# Altium integrated library TI Interface Line Receiver.IntLib: 131 symbols (part 3 of 3)
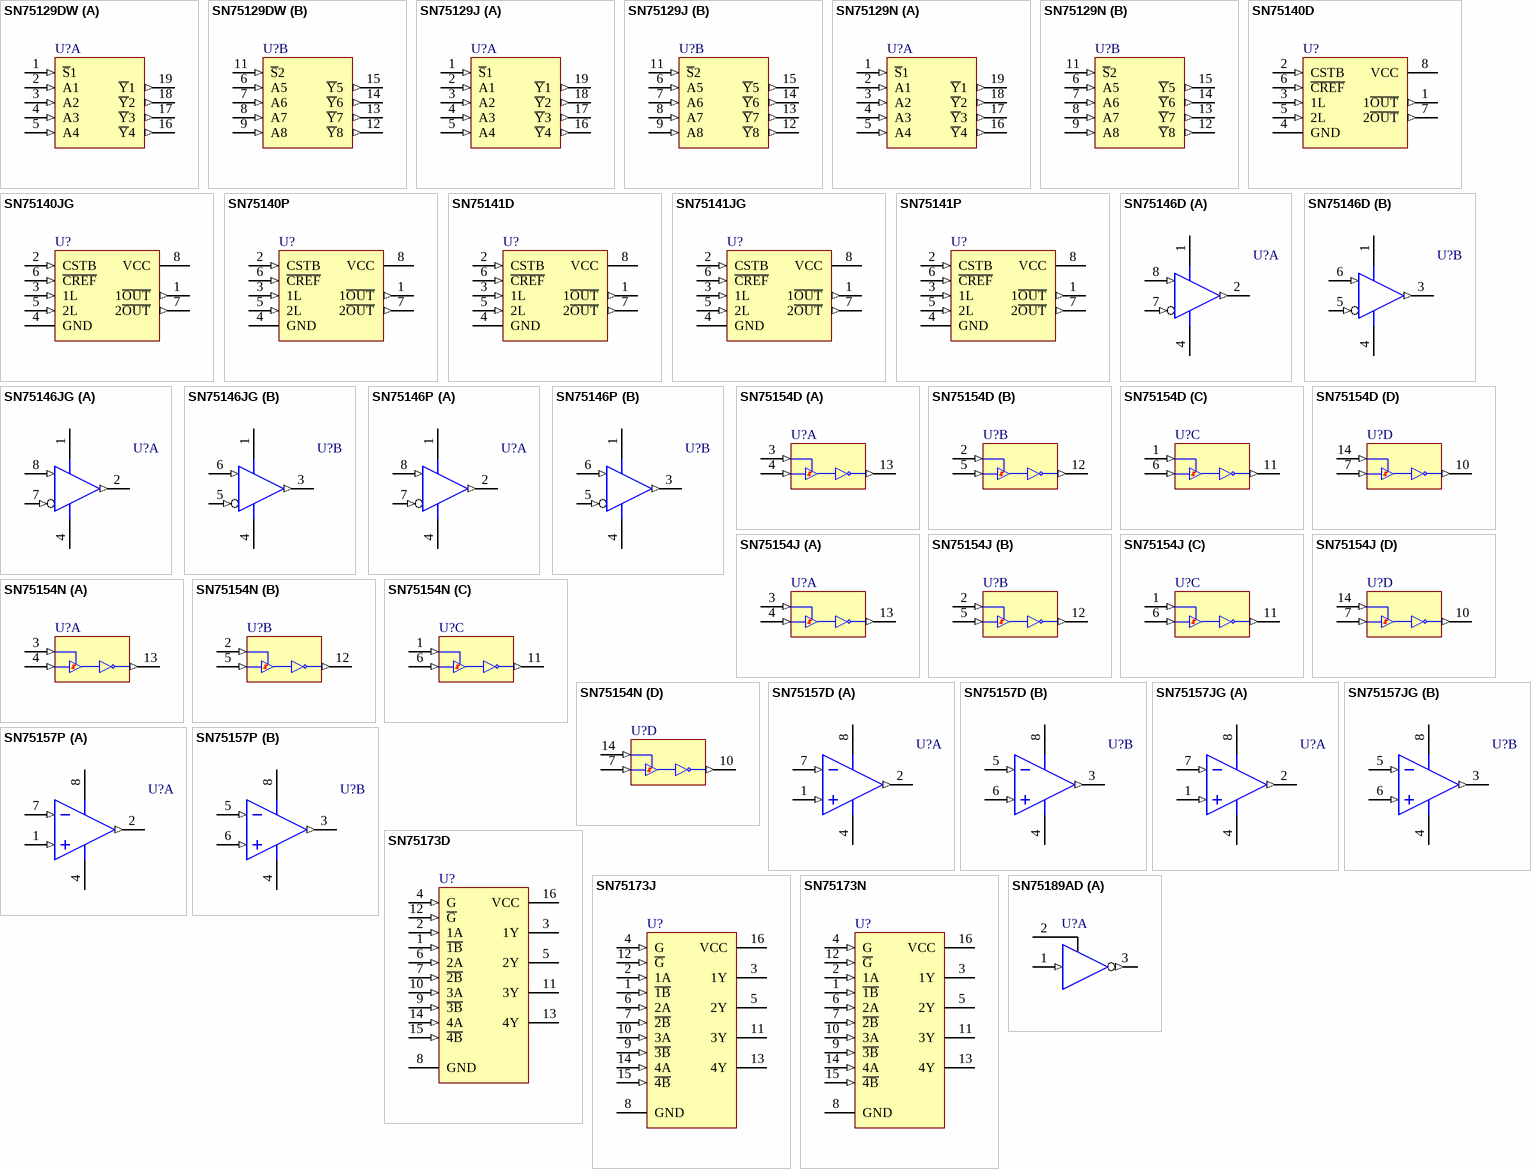
[diagram p8: symbols SN75129DW to SN75189AD]

## SN75146P
designator U?
Dual Differential Line Receiver; ComponentAvailability: Obsolete; Published: 15-May-2002; LatestRevisionDate: 29-May-2009; LatestRevisionNote: Component Body Added.; DatasheetVersion: Feb-1986; PackageVersion: Jun-1999; PackageReference: P008; Publisher: Altium Limited; PackageDescription: DIP, 8-Pin, Row Spacing 7.62 mm, Pitch 2.54 mm; Code_JEDEC: MO-001-AN; ComponentLink1Description: Manufacturer Link; ComponentLink1URL: http://www.ti.com/; ComponentLink2Description: Datasheet; ComponentLink2URL: http://www-s.ti.com/sc/ds/sn75146.pdf
footprint P008 (DIP, 8-Leads, Row Spacing 7.62mm, Pitch 2.54mm, Body 9.81x6.35mm)
3D model P008 (DIP, 8-Pin, Row Spacing 7.62 mm, Pitch 2.54 mm)
pins on every part: 1 VCC (power), 4 GND (power)
part A pins: 2 1OUT (out), 7 1IN- (in), 8 1IN+ (in)
part B pins: 3 2OUT (out), 5 2IN- (in), 6 2IN+ (in)

## SN75154D
designator U?
Quadruple Line Receiver; Published: 15-May-2002; LatestRevisionDate: 13-Apr-2006; LatestRevisionNote: IPC-7351 Footprint Added.; DatasheetVersion: May-1990; PackageVersion: Jan-1998; PackageReference: D016; Publisher: Altium Limited; PackageDescription: 16-Pin Small Outline Integrated Circuit 1.27 mm Pitch; Code_IPC: SOIC127P600-16; ComponentLink1Description: Manufacturer Link; ComponentLink1URL: http://www.ti.com/; ComponentLink2Description: Datasheet; ComponentLink2URL: http://www-s.ti.com/sc/ds/sn75154.pdf
footprint D016_N (SOIC, 16-Leads, Body 9.9x3.9mm, Pitch 1.27mm, IPC Medium Density)
footprint D016_L (SOIC, 16-Leads, Body 9.9x3.9mm, Pitch 1.27mm, IPC High Density)
footprint D016_M (SOIC, 16-Leads, Body 9.9x3.9mm, Pitch 1.27mm, IPC Low Density)
3D model D016 (16-Pin Small Outline Integrated Circuit 1.27 mm Pitch)
pins on every part: 8 GND (power) hidden to GND, 15 VCC1 (power) hidden to VCC1, 16 VCC2 (power) hidden to VCC2
part A pins: 3 1T (in), 4 1A (in), 13 1~{Y} (out)
part B pins: 2 2T (in), 5 2A (in), 12 2~{Y} (out)
part C pins: 1 3T (in), 6 3A (in), 11 3~{Y} (out)
part D pins: 7 4A (in), 10 4~{Y} (out), 14 4T (in)

## SN75154J
designator U?
Quadruple Line Receiver; Published: 15-May-2002; LatestRevisionDate: 29-May-2009; LatestRevisionNote: Component Body Added.; DatasheetVersion: May-1990; PackageVersion: Jun-1999; PackageReference: J016; Publisher: Altium Limited; PackageDescription: DIP, Ceramic, 16-Pin, Row Spacing 7.62 mm, Pitch 2.54 mm; ComponentLink1Description: Manufacturer Link; ComponentLink1URL: http://www.ti.com/
footprint J016 (DIP, 16-Leads, Row Spacing 7.62mm, Pitch 2.54mm, Body 19.56x6.92mm)
3D model J016 (DIP, Ceramic, 16-Pin, Row Spacing 7.62 mm, Pitch 2.54 mm)
pins on every part: 8 GND (power) hidden to GND, 15 VCC1 (power) hidden to VCC1, 16 VCC2 (power) hidden to VCC2
part A pins: 3 1T (in), 4 1A (in), 13 1~{Y} (out)
part B pins: 2 2T (in), 5 2A (in), 12 2~{Y} (out)
part C pins: 1 3T (in), 6 3A (in), 11 3~{Y} (out)
part D pins: 7 4A (in), 10 4~{Y} (out), 14 4T (in)

## SN75154N
designator U?
Quadruple Line Receiver; Published: 15-May-2002; LatestRevisionDate: 29-May-2009; LatestRevisionNote: Component Body Added.; DatasheetVersion: May-1990; PackageVersion: Oct-1995; PackageReference: N016; Publisher: Altium Limited; PackageDescription: DIP, 16-Pin, Row Spacing 7.62 mm, Pitch 2.54 mm; Code_JEDEC: MS-001-BB; ComponentLink1Description: Manufacturer Link; ComponentLink1URL: http://www.ti.com/; ComponentLink2Description: Datasheet; ComponentLink2URL: http://www-s.ti.com/sc/ds/sn75154.pdf
footprint N016 (DIP, 16-Leads, Row Spacing 7.62mm, Pitch 2.54mm, Body 19.31x6.35mm)
3D model N016 (DIP, 16-Pin, Row Spacing 7.62 mm, Pitch 2.54 mm)
pins on every part: 8 GND (power) hidden to GND, 15 VCC1 (power) hidden to VCC1, 16 VCC2 (power) hidden to VCC2
part A pins: 3 1T (in), 4 1A (in), 13 1~{Y} (out)
part B pins: 2 2T (in), 5 2A (in), 12 2~{Y} (out)
part C pins: 1 3T (in), 6 3A (in), 11 3~{Y} (out)
part D pins: 7 4A (in), 10 4~{Y} (out), 14 4T (in)

## SN75157D
designator U?
Dual Differential Line Receiver; Published: 15-May-2002; LatestRevisionDate: 13-Apr-2006; LatestRevisionNote: IPC-7351 Footprint Added.; DatasheetVersion: Sep-1986; PackageVersion: Nov-2006; PackageReference: D008; Publisher: Altium Limited; PackageDescription: 8-Pin Small Outline Integrated Circuit 1.27 mm Pitch; Code_JEDEC: MS-012-AA; Code_IPC: SOIC127P600-8; ComponentLink1Description: Manufacturer Link; ComponentLink1URL: http://www.ti.com/; ComponentLink2Description: Datasheet; ComponentLink2URL: http://www-s.ti.com/sc/ds/sn75157.pdf
footprint D008_N (SOIC, 8-Leads, Body 4.9x3.9mm, Pitch 1.27mm, IPC Medium Density)
footprint D008_L (SOIC, 8-Leads, Body 4.9x3.9mm, Pitch 1.27mm, IPC High Density)
footprint D008_M (SOIC, 8-Leads, Body 4.9x3.9mm, Pitch 1.27mm, IPC Low Density)
3D model D008 (8-Pin Small Outline Integrated Circuit 1.27 mm Pitch)
pins on every part: 4 GND (power), 8 VCC (power)
part A pins: 1 IN+ (in), 2 OUT (out), 7 IN- (in)
part B pins: 3 OUT (out), 5 IN- (in), 6 IN+ (in)

## SN75157JG
designator U?
Dual Differential Line Receiver; Published: 15-May-2002; LatestRevisionDate: 29-May-2009; LatestRevisionNote: Component Body Added.; DatasheetVersion: Sep-1986; PackageVersion: Jan-1995; PackageReference: JG008; Publisher: Altium Limited; PackageDescription: DIP, Ceramic, 8-Pin, Row Spacing 7.62 mm, Pitch 2.54 mm; ComponentLink1Description: Manufacturer Link; ComponentLink1URL: http://www.ti.com/
footprint JG008 (DIP, 8-Leads, Row Spacing 7.62mm, Pitch 2.54mm, Body 9.58x6.67mm)
3D model JG008 (DIP, Ceramic, 8-Pin, Row Spacing 7.62 mm, Pitch 2.54 mm)
pins on every part: 4 GND (power), 8 VCC (power)
part A pins: 1 IN+ (in), 2 OUT (out), 7 IN- (in)
part B pins: 3 OUT (out), 5 IN- (in), 6 IN+ (in)

## SN75157P
designator U?
Dual Differential Line Receiver; Published: 15-May-2002; LatestRevisionDate: 29-May-2009; LatestRevisionNote: Component Body Added.; DatasheetVersion: Sep-1986; PackageVersion: Jun-1999; PackageReference: P008; Publisher: Altium Limited; PackageDescription: DIP, 8-Pin, Row Spacing 7.62 mm, Pitch 2.54 mm; Code_JEDEC: MO-001-AN; ComponentLink1Description: Manufacturer Link; ComponentLink1URL: http://www.ti.com/; ComponentLink2Description: Datasheet; ComponentLink2URL: http://www-s.ti.com/sc/ds/sn75157.pdf
footprint P008 (DIP, 8-Leads, Row Spacing 7.62mm, Pitch 2.54mm, Body 9.81x6.35mm)
3D model P008 (DIP, 8-Pin, Row Spacing 7.62 mm, Pitch 2.54 mm)
pins on every part: 4 GND (power), 8 VCC (power)
part A pins: 1 IN+ (in), 2 OUT (out), 7 IN- (in)
part B pins: 3 OUT (out), 5 IN- (in), 6 IN+ (in)

## SN75173D
designator U?
Quadruple Differential Line Driver; Published: 15-May-2002; LatestRevisionDate: 13-Apr-2006; LatestRevisionNote: IPC-7351 Footprint Added.; DatasheetVersion: Jul-1990; PackageVersion: Jan-1998; PackageReference: D016; Publisher: Altium Limited; PackageDescription: 16-Pin Small Outline Integrated Circuit 1.27 mm Pitch; Code_IPC: SOIC127P600-16; ComponentLink1Description: Manufacturer Link; ComponentLink1URL: http://www.ti.com/; ComponentLink2Description: Datasheet; ComponentLink2URL: http://www-s.ti.com/sc/ds/sn75173.pdf
footprint D016_N (SOIC, 16-Leads, Body 9.9x3.9mm, Pitch 1.27mm, IPC Medium Density)
footprint D016_L (SOIC, 16-Leads, Body 9.9x3.9mm, Pitch 1.27mm, IPC High Density)
footprint D016_M (SOIC, 16-Leads, Body 9.9x3.9mm, Pitch 1.27mm, IPC Low Density)
3D model D016 (16-Pin Small Outline Integrated Circuit 1.27 mm Pitch)
pins: 1 ~{1B} (in), 2 1A (in), 3 1Y (hiz), 4 G (in), 5 2Y (hiz), 6 2A (in), 7 ~{2B} (in), 8 GND (power), 9 ~{3B} (in), 10 3A (in), 11 3Y (hiz), 12 ~{G} (in), 13 4Y (hiz), 14 4A (in), 15 ~{4B} (in), 16 VCC (power)

## SN75173J
designator U?
Quadruple Differential Line Driver; ComponentAvailability: Obsolete; Published: 15-May-2002; LatestRevisionDate: 29-May-2009; LatestRevisionNote: Component Body Added.; DatasheetVersion: Jul-1990; PackageVersion: Jun-1999; PackageReference: J016; Publisher: Altium Limited; PackageDescription: DIP, Ceramic, 16-Pin, Row Spacing 7.62 mm, Pitch 2.54 mm; ComponentLink1Description: Manufacturer Link; ComponentLink1URL: http://www.ti.com/; ComponentLink2Description: Datasheet; ComponentLink2URL: http://www-s.ti.com/sc/ds/sn75173.pdf
footprint J016 (DIP, 16-Leads, Row Spacing 7.62mm, Pitch 2.54mm, Body 19.56x6.92mm)
3D model J016 (DIP, Ceramic, 16-Pin, Row Spacing 7.62 mm, Pitch 2.54 mm)
pins: 1 ~{1B} (in), 2 1A (in), 3 1Y (hiz), 4 G (in), 5 2Y (hiz), 6 2A (in), 7 ~{2B} (in), 8 GND (power), 9 ~{3B} (in), 10 3A (in), 11 3Y (hiz), 12 ~{G} (in), 13 4Y (hiz), 14 4A (in), 15 ~{4B} (in), 16 VCC (power)

## SN75173N
designator U?
Quadruple Differential Line Driver; Published: 15-May-2002; LatestRevisionDate: 29-May-2009; LatestRevisionNote: Component Body Added.; DatasheetVersion: Jul-1990; PackageVersion: Oct-1995; PackageReference: N016; Publisher: Altium Limited; PackageDescription: DIP, 16-Pin, Row Spacing 7.62 mm, Pitch 2.54 mm; Code_JEDEC: MS-001-BB; ComponentLink1Description: Manufacturer Link; ComponentLink1URL: http://www.ti.com/; ComponentLink2Description: Datasheet; ComponentLink2URL: http://www-s.ti.com/sc/ds/sn75173.pdf
footprint N016 (DIP, 16-Leads, Row Spacing 7.62mm, Pitch 2.54mm, Body 19.31x6.35mm)
3D model N016 (DIP, 16-Pin, Row Spacing 7.62 mm, Pitch 2.54 mm)
pins: 1 ~{1B} (in), 2 1A (in), 3 1Y (hiz), 4 G (in), 5 2Y (hiz), 6 2A (in), 7 ~{2B} (in), 8 GND (power), 9 ~{3B} (in), 10 3A (in), 11 3Y (hiz), 12 ~{G} (in), 13 4Y (hiz), 14 4A (in), 15 ~{4B} (in), 16 VCC (power)

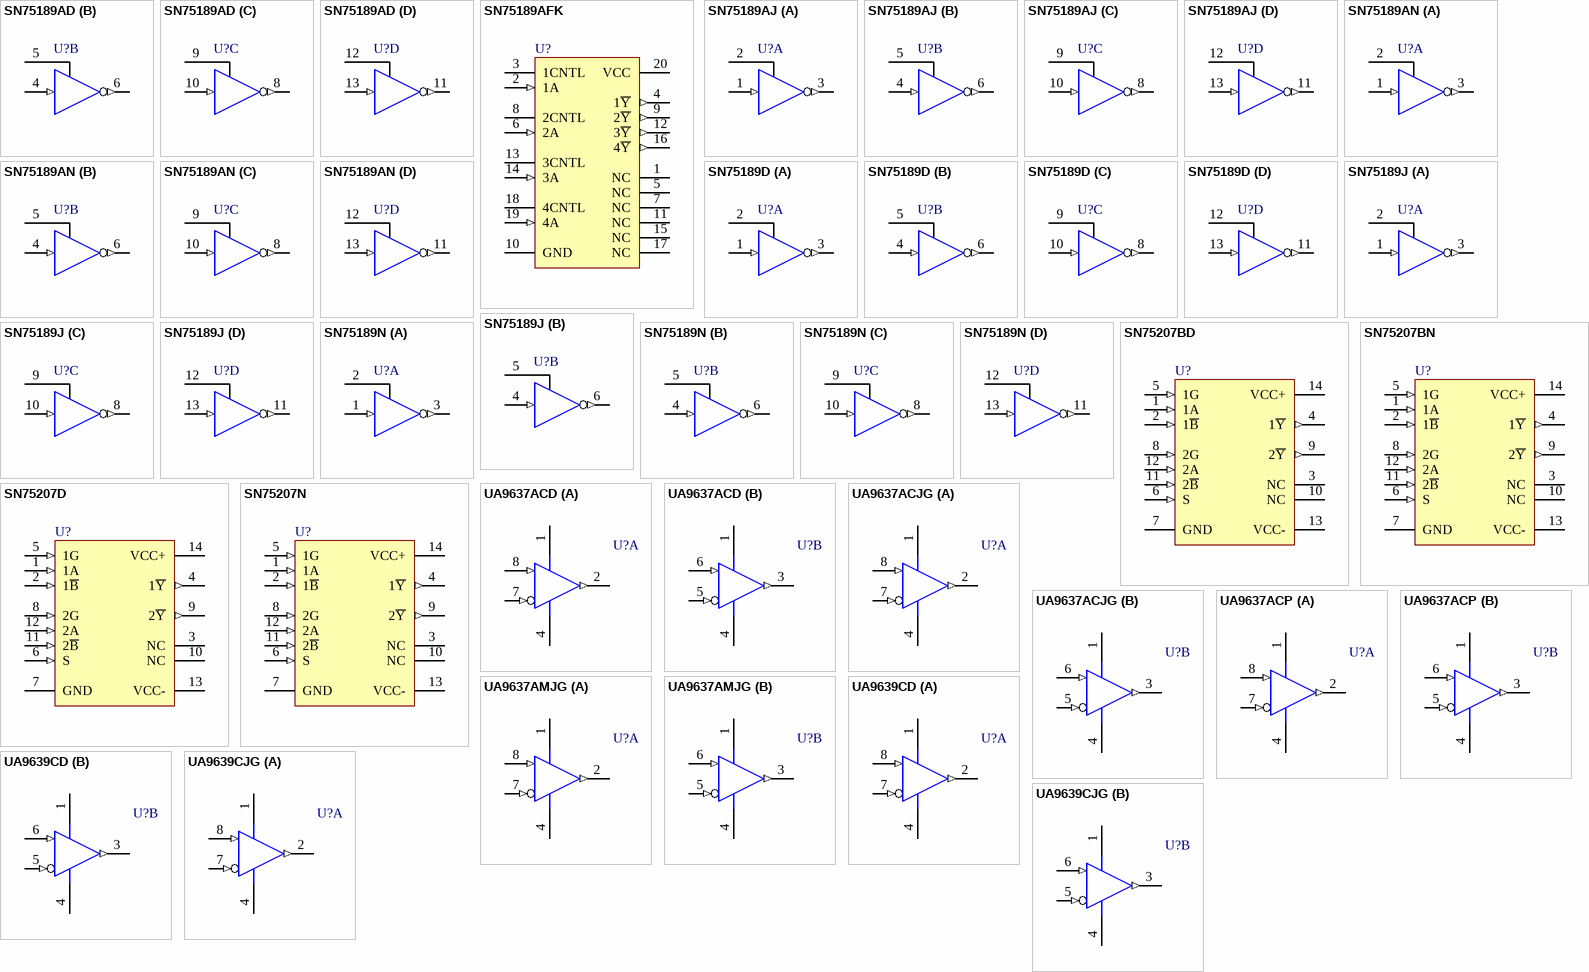
[diagram p5: symbols SN75189AD to UA9639CJG]

## SN75189AD
designator U?
Quadruple Line Receiver; Published: 15-May-2002; LatestRevisionDate: 13-Apr-2006; LatestRevisionNote: IPC-7351 Footprint Added.; DatasheetVersion: May-1990; PackageVersion: Nov-2006; PackageReference: D014; Publisher: Altium Limited; PackageDescription: 14-Pin Small Outline Integrated Circuit 1.27 mm Pitch; Code_JEDEC: MS-012-AB; Code_IPC: SOIC127P600-14; ComponentLink1Description: Manufacturer Link; ComponentLink1URL: http://www.ti.com/; ComponentLink2Description: Datasheet; ComponentLink2URL: http://www-s.ti.com/sc/ds/sn55189.pdf
footprint D014_N (SOIC, 14-Leads, Body 8.7x3.9mm, Pitch 1.27mm, IPC Medium Density)
footprint D014_L (SOIC, 14-Leads, Body 8.7x3.9mm, Pitch 1.27mm, IPC High Density)
footprint D014_M (SOIC, 14-Leads, Body 8.7x3.9mm, Pitch 1.27mm, IPC Low Density)
3D model D014 (14-Pin Small Outline Integrated Circuit 1.27 mm Pitch)
pins on every part: 7 GND (power) hidden to GND, 14 VCC+ (power) hidden to VCC+
part A pins: 1 A (in), 2 CNTL, 3 ~{Y} (out)
part B pins: 4 A (in), 5 CNTL, 6 ~{Y} (out)
part C pins: 8 ~{Y} (out), 9 CNTL, 10 A (in)
part D pins: 11 ~{Y} (out), 12 CNTL, 13 A (in)

## SN75189AFK
designator U?
Quadruple Line Receiver; Note: Inputs have build in Hysteresis (Double Thresholds); Published: 15-May-2002; LatestRevisionDate: 29-May-2009; LatestRevisionNote: IPC-7351 Footprint Added.; DatasheetVersion: May-1990; PackageVersion: 1998; PackageReference: FK020; Publisher: Altium Limited; PackageDescription: 20-Pin Leadless Chip Carrier 1.27 mm Pitch; Code_JEDEC: MS-004-CB; ComponentLink1Description: Manufacturer Link; ComponentLink1URL: http://www.ti.com/
footprint FK020_N (Leadless Chip Carrier, 20-Leads, Body 8.9x8.9mm, Pitch 1.27mm, IPC Medium Density)
footprint FK020_L (Leadless Chip Carrier, 20-Leads, Body 8.9x8.9mm, Pitch 1.27mm, IPC High Density)
footprint FK020_M (Leadless Chip Carrier, 20-Leads, Body 8.9x8.9mm, Pitch 1.27mm, IPC Low Density)
pins: 1 NC, 2 1A (in), 3 1CNTL, 4 1~{Y} (out), 5 NC, 6 2A (in), 7 NC, 8 2CNTL, 9 2~{Y} (out), 10 GND (power), 11 NC, 12 3~{Y} (out), 13 3CNTL, 14 3A (in), 15 NC, 16 4~{Y} (out), 17 NC, 18 4CNTL, 19 4A (in), 20 VCC (power)

## SN75189AJ
designator U?
Quadruple Line Receiver; Published: 15-May-2002; LatestRevisionDate: 29-May-2009; LatestRevisionNote: Component Body Added.; DatasheetVersion: May-1990; PackageVersion: Jun-1999; PackageReference: J014; Publisher: Altium Limited; PackageDescription: DIP, Ceramic, 14-Pin, Row Spacing 7.62 mm, Pitch 2.54 mm; ComponentLink1Description: Manufacturer Link; ComponentLink1URL: http://www.ti.com/
footprint J014 (DIP, 14-Leads, Row Spacing 7.62mm, Pitch 2.54mm, Body 19.56x6.92mm)
3D model J014 (DIP, Ceramic, 14-Pin, Row Spacing 7.62 mm, Pitch 2.54 mm)
pins on every part: 7 GND (power) hidden to GND, 14 VCC+ (power) hidden to VCC+
part A pins: 1 A (in), 2 CNTL, 3 ~{Y} (out)
part B pins: 4 A (in), 5 CNTL, 6 ~{Y} (out)
part C pins: 8 ~{Y} (out), 9 CNTL, 10 A (in)
part D pins: 11 ~{Y} (out), 12 CNTL, 13 A (in)

## SN75189AN
designator U?
Quadruple Line Receiver; Published: 15-May-2002; LatestRevisionDate: 29-May-2009; LatestRevisionNote: Component Body Added.; DatasheetVersion: May-1990; PackageVersion: Oct-1995; PackageReference: N014; Publisher: Altium Limited; PackageDescription: DIP, 14-Pin, Row Spacing 7.62 mm, Pitch 2.54 mm; ComponentLink1Description: Manufacturer Link; ComponentLink1URL: http://www.ti.com/; ComponentLink2Description: Datasheet; ComponentLink2URL: http://www-s.ti.com/sc/ds/sn55189.pdf
footprint N014 (DIP, 14-Leads, Row Spacing 7.62mm, Pitch 2.54mm, Body 19.31x6.35mm)
3D model N014 (DIP, 14-Pin, Row Spacing 7.62 mm, Pitch 2.54 mm)
pins on every part: 7 GND (power) hidden to GND, 14 VCC+ (power) hidden to VCC+
part A pins: 1 A (in), 2 CNTL, 3 ~{Y} (out)
part B pins: 4 A (in), 5 CNTL, 6 ~{Y} (out)
part C pins: 8 ~{Y} (out), 9 CNTL, 10 A (in)
part D pins: 11 ~{Y} (out), 12 CNTL, 13 A (in)

## SN75189D
designator U?
Quadruple Line Receiver; Published: 15-May-2002; LatestRevisionDate: 13-Apr-2006; LatestRevisionNote: IPC-7351 Footprint Added.; DatasheetVersion: May-1990; PackageVersion: Nov-2006; PackageReference: D014; Publisher: Altium Limited; PackageDescription: 14-Pin Small Outline Integrated Circuit 1.27 mm Pitch; Code_JEDEC: MS-012-AB; Code_IPC: SOIC127P600-14; ComponentLink1Description: Manufacturer Link; ComponentLink1URL: http://www.ti.com/; ComponentLink2Description: Datasheet; ComponentLink2URL: http://www-s.ti.com/sc/ds/sn55189.pdf
footprint D014_N (SOIC, 14-Leads, Body 8.7x3.9mm, Pitch 1.27mm, IPC Medium Density)
footprint D014_L (SOIC, 14-Leads, Body 8.7x3.9mm, Pitch 1.27mm, IPC High Density)
footprint D014_M (SOIC, 14-Leads, Body 8.7x3.9mm, Pitch 1.27mm, IPC Low Density)
3D model D014 (14-Pin Small Outline Integrated Circuit 1.27 mm Pitch)
pins on every part: 7 GND (power) hidden to GND, 14 VCC+ (power) hidden to VCC+
part A pins: 1 A (in), 2 CNTL, 3 ~{Y} (out)
part B pins: 4 A (in), 5 CNTL, 6 ~{Y} (out)
part C pins: 8 ~{Y} (out), 9 CNTL, 10 A (in)
part D pins: 11 ~{Y} (out), 12 CNTL, 13 A (in)

## SN75189J
designator U?
Quadruple Line Receiver; Published: 15-May-2002; LatestRevisionDate: 29-May-2009; LatestRevisionNote: Component Body Added.; DatasheetVersion: May-1990; PackageVersion: Jun-1999; PackageReference: J014; Publisher: Altium Limited; PackageDescription: DIP, Ceramic, 14-Pin, Row Spacing 7.62 mm, Pitch 2.54 mm; ComponentLink1Description: Manufacturer Link; ComponentLink1URL: http://www.ti.com/
footprint J014 (DIP, 14-Leads, Row Spacing 7.62mm, Pitch 2.54mm, Body 19.56x6.92mm)
3D model J014 (DIP, Ceramic, 14-Pin, Row Spacing 7.62 mm, Pitch 2.54 mm)
pins on every part: 7 GND (power) hidden to GND, 14 VCC+ (power) hidden to VCC+
part A pins: 1 A (in), 2 CNTL, 3 ~{Y} (out)
part B pins: 4 A (in), 5 CNTL, 6 ~{Y} (out)
part C pins: 8 ~{Y} (out), 9 CNTL, 10 A (in)
part D pins: 11 ~{Y} (out), 12 CNTL, 13 A (in)

## SN75189N
designator U?
Quadruple Line Receiver; Published: 15-May-2002; LatestRevisionDate: 29-May-2009; LatestRevisionNote: Component Body Added.; DatasheetVersion: May-1990; PackageVersion: Oct-1995; PackageReference: N014; Publisher: Altium Limited; PackageDescription: DIP, 14-Pin, Row Spacing 7.62 mm, Pitch 2.54 mm; ComponentLink1Description: Manufacturer Link; ComponentLink1URL: http://www.ti.com/; ComponentLink2Description: Datasheet; ComponentLink2URL: http://www-s.ti.com/sc/ds/sn55189.pdf
footprint N014 (DIP, 14-Leads, Row Spacing 7.62mm, Pitch 2.54mm, Body 19.31x6.35mm)
3D model N014 (DIP, 14-Pin, Row Spacing 7.62 mm, Pitch 2.54 mm)
pins on every part: 7 GND (power) hidden to GND, 14 VCC+ (power) hidden to VCC+
part A pins: 1 A (in), 2 CNTL, 3 ~{Y} (out)
part B pins: 4 A (in), 5 CNTL, 6 ~{Y} (out)
part C pins: 8 ~{Y} (out), 9 CNTL, 10 A (in)
part D pins: 11 ~{Y} (out), 12 CNTL, 13 A (in)

## SN75207BD
designator U?
Dual Sense Amplifier for MOS Memory or Dual High-Sensitivity Line Receiver; Note: This device has a diode protected Input stage for Power-Off Condition.; Published: 15-May-2002; LatestRevisionDate: 13-Apr-2006; LatestRevisionNote: IPC-7351 Footprint Added.; DatasheetVersion: Sep-1989; PackageVersion: Nov-2006; PackageReference: D014; Publisher: Altium Limited; PackageDescription: 14-Pin Small Outline Integrated Circuit 1.27 mm Pitch; Code_JEDEC: MS-012-AB; Code_IPC: SOIC127P600-14; ComponentLink1Description: Manufacturer Link; ComponentLink1URL: http://www.ti.com/
footprint D014_N (SOIC, 14-Leads, Body 8.7x3.9mm, Pitch 1.27mm, IPC Medium Density)
footprint D014_L (SOIC, 14-Leads, Body 8.7x3.9mm, Pitch 1.27mm, IPC High Density)
footprint D014_M (SOIC, 14-Leads, Body 8.7x3.9mm, Pitch 1.27mm, IPC Low Density)
3D model D014 (14-Pin Small Outline Integrated Circuit 1.27 mm Pitch)
pins: 1 1A (in), 2 1~{B} (in), 3 NC, 4 1~{Y} (out), 5 1G (in), 6 S (in), 7 GND (power), 8 2G (in), 9 2~{Y} (out), 10 NC, 11 2~{B} (in), 12 2A (in), 13 VCC- (power), 14 VCC+ (power)

## SN75207BN
designator U?
Dual Sense Amplifier for MOS Memory or Dual High-Sensitivity Line Receiver; Note: This device has a diode protected Input stage for Power-Off Condition.; Published: 15-May-2002; LatestRevisionDate: 29-May-2009; LatestRevisionNote: Component Body Added.; DatasheetVersion: Sep-1989; PackageVersion: Oct-1995; PackageReference: N014; Publisher: Altium Limited; PackageDescription: DIP, 14-Pin, Row Spacing 7.62 mm, Pitch 2.54 mm; ComponentLink1Description: Manufacturer Link; ComponentLink1URL: http://www.ti.com/
footprint N014 (DIP, 14-Leads, Row Spacing 7.62mm, Pitch 2.54mm, Body 19.31x6.35mm)
3D model N014 (DIP, 14-Pin, Row Spacing 7.62 mm, Pitch 2.54 mm)
pins: 1 1A (in), 2 1~{B} (in), 3 NC, 4 1~{Y} (out), 5 1G (in), 6 S (in), 7 GND (power), 8 2G (in), 9 2~{Y} (out), 10 NC, 11 2~{B} (in), 12 2A (in), 13 VCC- (power), 14 VCC+ (power)

## SN75207D
designator U?
Dual Sense Amplifier for MOS Memory or Dual High-Sensitivity Line Receiver; ComponentAvailability: Obsolete; Published: 15-May-2002; LatestRevisionDate: 13-Apr-2006; LatestRevisionNote: IPC-7351 Footprint Added.; DatasheetVersion: Sep-1989; PackageVersion: Nov-2006; PackageReference: D014; Publisher: Altium Limited; PackageDescription: 14-Pin Small Outline Integrated Circuit 1.27 mm Pitch; Code_JEDEC: MS-012-AB; Code_IPC: SOIC127P600-14; ComponentLink1Description: Manufacturer Link; ComponentLink1URL: http://www.ti.com/; ComponentLink2Description: URL Link1; ComponentLink2URL: http://focus.ti.com/docs/prod/folders/print/sn75207.html
footprint D014_N (SOIC, 14-Leads, Body 8.7x3.9mm, Pitch 1.27mm, IPC Medium Density)
footprint D014_L (SOIC, 14-Leads, Body 8.7x3.9mm, Pitch 1.27mm, IPC High Density)
footprint D014_M (SOIC, 14-Leads, Body 8.7x3.9mm, Pitch 1.27mm, IPC Low Density)
3D model D014 (14-Pin Small Outline Integrated Circuit 1.27 mm Pitch)
pins: 1 1A (in), 2 1~{B} (in), 3 NC, 4 1~{Y} (out), 5 1G (in), 6 S (in), 7 GND (power), 8 2G (in), 9 2~{Y} (out), 10 NC, 11 2~{B} (in), 12 2A (in), 13 VCC- (power), 14 VCC+ (power)

## SN75207N
designator U?
Dual Sense Amplifier for MOS Memory or Dual High-Sensitivity Line Receiver; ComponentAvailability: Obsolete; Published: 15-May-2002; LatestRevisionDate: 29-May-2009; LatestRevisionNote: Component Body Added.; DatasheetVersion: Sep-1989; PackageVersion: Oct-1995; PackageReference: N014; Publisher: Altium Limited; PackageDescription: DIP, 14-Pin, Row Spacing 7.62 mm, Pitch 2.54 mm; ComponentLink1Description: Manufacturer Link; ComponentLink1URL: http://www.ti.com/; ComponentLink2Description: URL Link1; ComponentLink2URL: http://focus.ti.com/docs/prod/folders/print/sn75207.html
footprint N014 (DIP, 14-Leads, Row Spacing 7.62mm, Pitch 2.54mm, Body 19.31x6.35mm)
3D model N014 (DIP, 14-Pin, Row Spacing 7.62 mm, Pitch 2.54 mm)
pins: 1 1A (in), 2 1~{B} (in), 3 NC, 4 1~{Y} (out), 5 1G (in), 6 S (in), 7 GND (power), 8 2G (in), 9 2~{Y} (out), 10 NC, 11 2~{B} (in), 12 2A (in), 13 VCC- (power), 14 VCC+ (power)

## UA9637ACD
designator U?
Dual Differential Line Receiver; Published: 15-May-2002; LatestRevisionDate: 13-Apr-2006; LatestRevisionNote: IPC-7351 Footprint Added.; DatasheetVersion: Nov-1986; PackageVersion: Nov-2006; PackageReference: D008; Publisher: Altium Limited; PackageDescription: 8-Pin Small Outline Integrated Circuit 1.27 mm Pitch; Code_JEDEC: MS-012-AA; Code_IPC: SOIC127P600-8; ComponentLink1Description: Manufacturer Link; ComponentLink1URL: http://www.ti.com/; ComponentLink2Description: Datasheet; ComponentLink2URL: http://www-s.ti.com/sc/ds/ua9637a.pdf
footprint D008_N (SOIC, 8-Leads, Body 4.9x3.9mm, Pitch 1.27mm, IPC Medium Density)
footprint D008_L (SOIC, 8-Leads, Body 4.9x3.9mm, Pitch 1.27mm, IPC High Density)
footprint D008_M (SOIC, 8-Leads, Body 4.9x3.9mm, Pitch 1.27mm, IPC Low Density)
3D model D008 (8-Pin Small Outline Integrated Circuit 1.27 mm Pitch)
pins on every part: 1 VCC (power), 4 GND (power)
part A pins: 2 1OUT (out), 7 1IN- (in), 8 1IN+ (in)
part B pins: 3 2OUT (out), 5 2IN- (in), 6 2IN+ (in)

## UA9637ACJG
designator U?
Dual Differential Line Receiver; ComponentAvailability: Obsolete; Published: 15-May-2002; LatestRevisionDate: 29-May-2009; LatestRevisionNote: Component Body Added.; DatasheetVersion: Nov-1986; PackageVersion: Jan-1995; PackageReference: JG008; Publisher: Altium Limited; PackageDescription: DIP, Ceramic, 8-Pin, Row Spacing 7.62 mm, Pitch 2.54 mm; ComponentLink1Description: Manufacturer Link; ComponentLink1URL: http://www.ti.com/; ComponentLink2Description: Datasheet; ComponentLink2URL: http://www-s.ti.com/sc/ds/ua9637a.pdf
footprint JG008 (DIP, 8-Leads, Row Spacing 7.62mm, Pitch 2.54mm, Body 9.58x6.67mm)
3D model JG008 (DIP, Ceramic, 8-Pin, Row Spacing 7.62 mm, Pitch 2.54 mm)
pins on every part: 1 VCC (power), 4 GND (power)
part A pins: 2 1OUT (out), 7 1IN- (in), 8 1IN+ (in)
part B pins: 3 2OUT (out), 5 2IN- (in), 6 2IN+ (in)

## UA9637ACP
designator U?
Dual Differential Line Receiver; Published: 15-May-2002; LatestRevisionDate: 29-May-2009; LatestRevisionNote: Component Body Added.; DatasheetVersion: Nov-1986; PackageVersion: Jun-1999; PackageReference: P008; Publisher: Altium Limited; PackageDescription: DIP, 8-Pin, Row Spacing 7.62 mm, Pitch 2.54 mm; Code_JEDEC: MO-001-AN; ComponentLink1Description: Manufacturer Link; ComponentLink1URL: http://www.ti.com/; ComponentLink2Description: Datasheet; ComponentLink2URL: http://www-s.ti.com/sc/ds/ua9637a.pdf
footprint P008 (DIP, 8-Leads, Row Spacing 7.62mm, Pitch 2.54mm, Body 9.81x6.35mm)
3D model P008 (DIP, 8-Pin, Row Spacing 7.62 mm, Pitch 2.54 mm)
pins on every part: 1 VCC (power), 4 GND (power)
part A pins: 2 1OUT (out), 7 1IN- (in), 8 1IN+ (in)
part B pins: 3 2OUT (out), 5 2IN- (in), 6 2IN+ (in)

## UA9637AMJG
designator U?
Dual Differential Line Receiver; Published: 15-May-2002; LatestRevisionDate: 29-May-2009; LatestRevisionNote: Component Body Added.; DatasheetVersion: Nov-1986; PackageVersion: Jan-1995; PackageReference: JG008; Publisher: Altium Limited; PackageDescription: DIP, Ceramic, 8-Pin, Row Spacing 7.62 mm, Pitch 2.54 mm; ComponentLink1Description: Manufacturer Link; ComponentLink1URL: http://www.ti.com/
footprint JG008 (DIP, 8-Leads, Row Spacing 7.62mm, Pitch 2.54mm, Body 9.58x6.67mm)
3D model JG008 (DIP, Ceramic, 8-Pin, Row Spacing 7.62 mm, Pitch 2.54 mm)
pins on every part: 1 VCC (power), 4 GND (power)
part A pins: 2 1OUT (out), 7 1IN- (in), 8 1IN+ (in)
part B pins: 3 2OUT (out), 5 2IN- (in), 6 2IN+ (in)

## UA9639CD
designator U?
Dual Differential Line Receiver; ComponentAvailability: Obsolete; Published: 15-May-2002; LatestRevisionDate: 13-Apr-2006; LatestRevisionNote: IPC-7351 Footprint Added.; DatasheetVersion: Oct-1986; PackageVersion: Nov-2006; PackageReference: D008; Publisher: Altium Limited; PackageDescription: 8-Pin Small Outline Integrated Circuit 1.27 mm Pitch; Code_JEDEC: MS-012-AA; Code_IPC: SOIC127P600-8; ComponentLink1Description: Manufacturer Link; ComponentLink1URL: http://www.ti.com/; ComponentLink2Description: Datasheet; ComponentLink2URL: http://www-s.ti.com/sc/ds/ua9639.pdf
footprint D008_N (SOIC, 8-Leads, Body 4.9x3.9mm, Pitch 1.27mm, IPC Medium Density)
footprint D008_L (SOIC, 8-Leads, Body 4.9x3.9mm, Pitch 1.27mm, IPC High Density)
footprint D008_M (SOIC, 8-Leads, Body 4.9x3.9mm, Pitch 1.27mm, IPC Low Density)
3D model D008 (8-Pin Small Outline Integrated Circuit 1.27 mm Pitch)
pins on every part: 1 VCC (power), 4 GND (power)
part A pins: 2 1OUT (out), 7 1IN- (in), 8 1IN+ (in)
part B pins: 3 2OUT (out), 5 2IN- (in), 6 2IN+ (in)

## UA9639CJG
designator U?
Dual Differential Line Receiver; Published: 15-May-2002; LatestRevisionDate: 29-May-2009; LatestRevisionNote: Component Body Added.; DatasheetVersion: Oct-1986; PackageVersion: Jan-1995; PackageReference: JG008; Publisher: Altium Limited; PackageDescription: DIP, Ceramic, 8-Pin, Row Spacing 7.62 mm, Pitch 2.54 mm; ComponentLink1Description: Manufacturer Link; ComponentLink1URL: http://www.ti.com/
footprint JG008 (DIP, 8-Leads, Row Spacing 7.62mm, Pitch 2.54mm, Body 9.58x6.67mm)
3D model JG008 (DIP, Ceramic, 8-Pin, Row Spacing 7.62 mm, Pitch 2.54 mm)
pins on every part: 1 VCC (power), 4 GND (power)
part A pins: 2 1OUT (out), 7 1IN- (in), 8 1IN+ (in)
part B pins: 3 2OUT (out), 5 2IN- (in), 6 2IN+ (in)

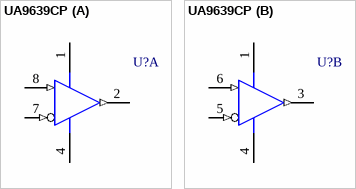
[diagram p6: symbol UA9639CP]

## UA9639CP
designator U?
Dual Differential Line Receiver; Published: 15-May-2002; LatestRevisionDate: 29-May-2009; LatestRevisionNote: Component Body Added.; DatasheetVersion: Oct-1986; PackageVersion: Jun-1999; PackageReference: P008; Publisher: Altium Limited; PackageDescription: DIP, 8-Pin, Row Spacing 7.62 mm, Pitch 2.54 mm; Code_JEDEC: MO-001-AN; ComponentLink1Description: Manufacturer Link; ComponentLink1URL: http://www.ti.com/; ComponentLink2Description: Datasheet; ComponentLink2URL: http://www-s.ti.com/sc/ds/ua9639.pdf
footprint P008 (DIP, 8-Leads, Row Spacing 7.62mm, Pitch 2.54mm, Body 9.81x6.35mm)
3D model P008 (DIP, 8-Pin, Row Spacing 7.62 mm, Pitch 2.54 mm)
pins on every part: 1 VCC (power), 4 GND (power)
part A pins: 2 1OUT (out), 7 1IN- (in), 8 1IN+ (in)
part B pins: 3 2OUT (out), 5 2IN- (in), 6 2IN+ (in)